# Altium footprint library PCB - LEADLESS - QFN50P500X500X80-33N-310.PcbLib: 1 footprints
Each footprint in its own frame and in the unit in brackets; x right, y up, seen from the top. Pads: shape width x height; smd on the part's side, far side on the other; paste and mask are expansions set on the pad; w line width, h text height; cw(c..) or ccw(c..) is an arc to the next point about the centre after c.
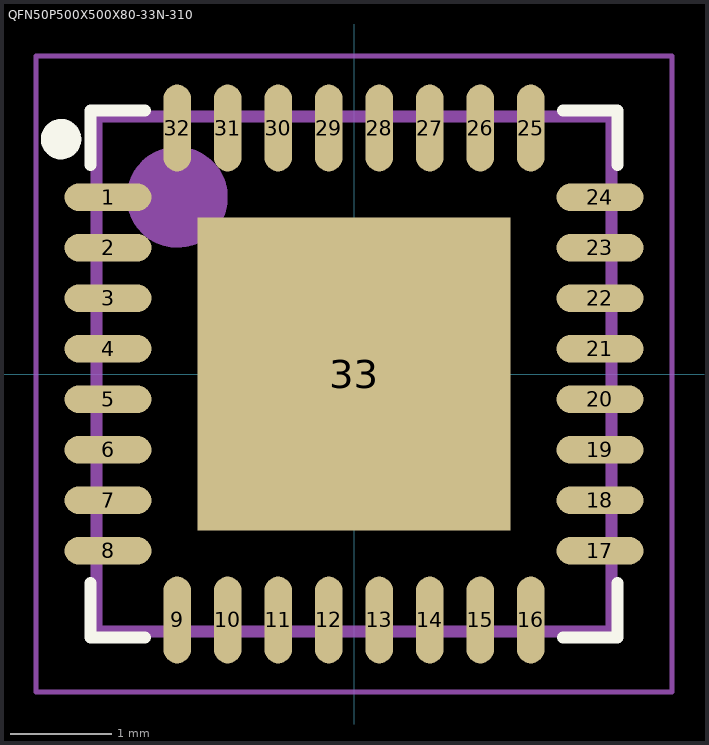
[diagram p0: the footprint, top view; thin cyan lines are the x and y axes]

## QFN50P500X500X80-33N-310 [mm]
height 0.8
pads (33):
  oval 0.86x0.27 smd: 1(-2.435,1.75) 2(-2.435,1.25) 3(-2.435,0.75) 4(-2.435,0.25) 5(-2.435,-0.25) 6(-2.435,-0.75) 7(-2.435,-1.25) 8(-2.435,-1.75) 17(2.435,-1.75) 18(2.435,-1.25) 19(2.435,-0.75) 20(2.435,-0.25) 21(2.435,0.25) 22(2.435,0.75) 23(2.435,1.25) 24(2.435,1.75)
  oval 0.27x0.86 smd: 9(-1.75,-2.435) 10(-1.25,-2.435) 11(-0.75,-2.435) 12(-0.25,-2.435) 13(0.25,-2.435) 14(0.75,-2.435) 15(1.25,-2.435) 16(1.75,-2.435) 25(1.75,2.435) 26(1.25,2.435) 27(0.75,2.435) 28(0.25,2.435) 29(-0.25,2.435) 30(-0.75,2.435) 31(-1.25,2.435) 32(-1.75,2.435)
  rect 3.1x3.1 smd: 33(0,0)
Top Overlay:
  circle w0.2: c-2.9,2.325 r0.1
  lines w0.12: -2.61,-2.07 -2.61,-2.61 -2.07,-2.61 ; -2.61,2.07 -2.61,2.61 -2.07,2.61 ; 2.07,-2.61 2.61,-2.61 2.61,-2.07 ; 2.07,2.61 2.61,2.61 2.61,2.07
Top Assembly:
  circle w0.5: c-1.75,1.75 r0.25
  lines w0.001: -2.55,-2.55 -2.55,2.55 2.55,2.55 2.55,-2.55 -2.55,-2.55
  lines w0.12: -2.55,-2.55 2.55,-2.55 2.55,2.55 -2.55,2.55 -2.55,-2.55
Top Courtyard:
  lines w0.05: -3.15,-3.15 -3.15,3.15 3.15,3.15 3.15,-3.15 -3.15,-3.15
Top Designator:
  text ".Designator" at -4.064,3.683 h1
Top Component Center:
  lines w0.05: -0.5,0 0.5,0 ; 0,-0.5 0,0.5
3D body: height 0.8, standoff 0, extent -2.55,-2.55 2.55,2.55
3D body: height 0.81, standoff 0, extent -2.15,1.35 -1.35,2.15